# Altium footprint library DIP.PcbLib: 12 footprints
Each footprint in its own frame and in the unit in brackets; x right, y up, seen from the top. Pads: shape width x height; smd on the part's side, far side on the other; paste and mask are expansions set on the pad; w line width, h text height; cw(c..) or ccw(c..) is an arc to the next point about the centre after c.
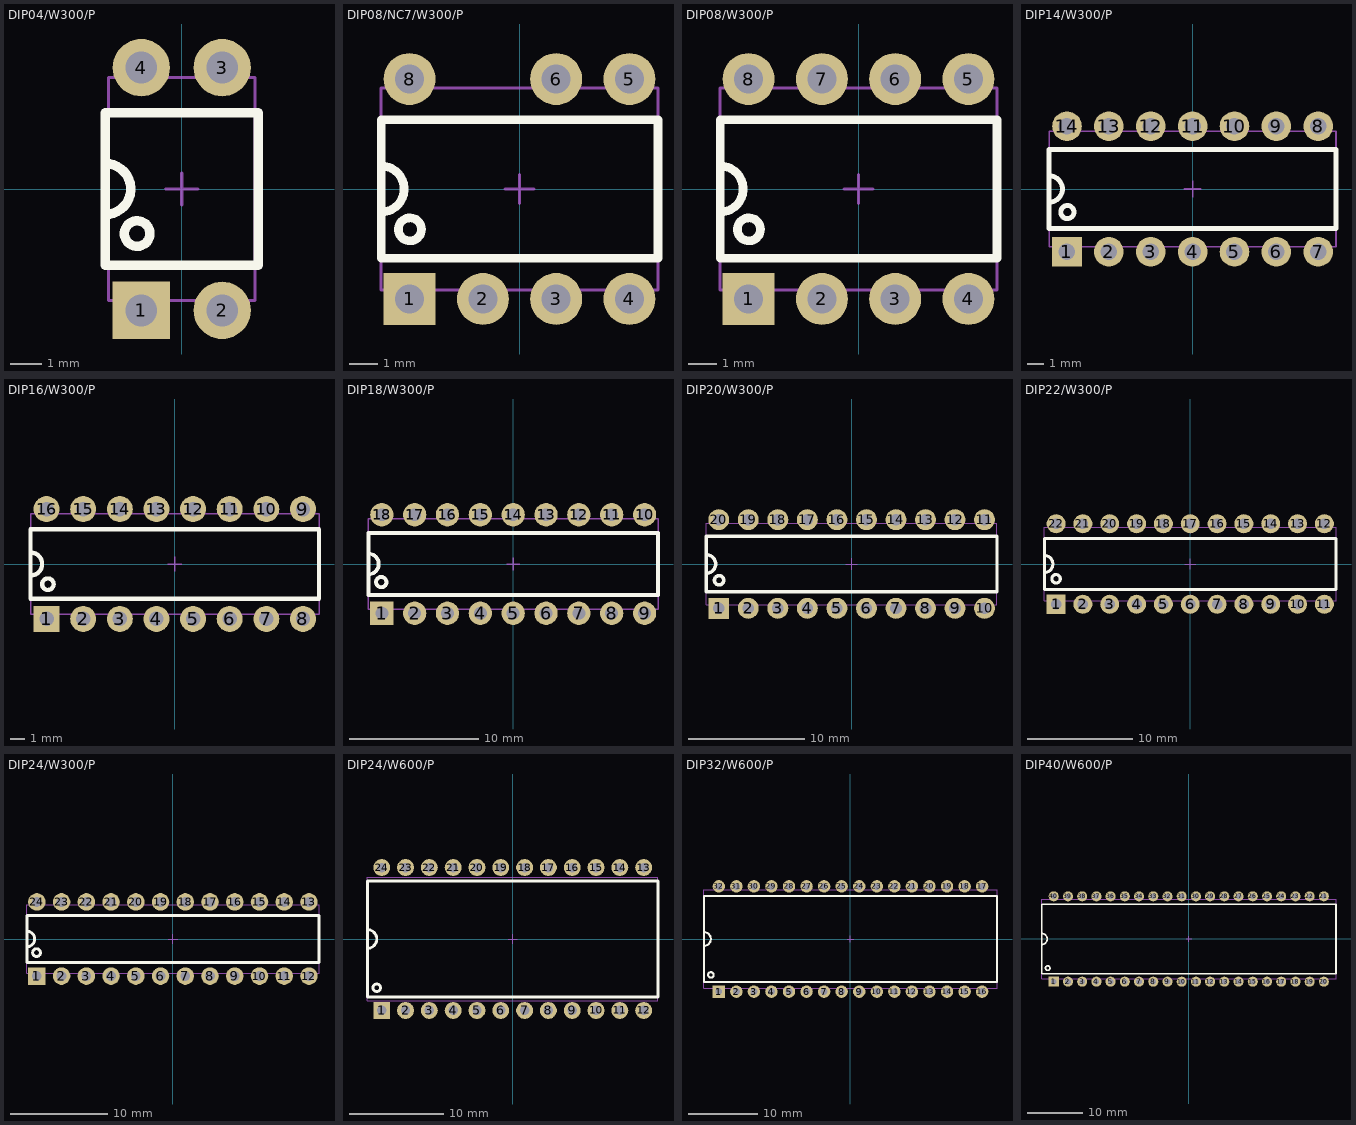
[diagram p0: the footprints below, top view; thin cyan lines are the x and y axes]

## DIP04/W300/P [mm] "Dual Inline Package; 4Pin; JEDEC MO-095; Body Width 300mil/7.62mm; Pitch 100mil/2.54mm;"
height 4.3
pads (4):
  rect 1.8x1.8 hole 1: 1(-1.27,-3.81)
  round 1.8 hole 1: 2(1.27,-3.81) 3(1.27,3.81) 4(-1.27,3.81)
Top Overlay:
  circle w0.3: c-1.4,-1.4 r0.4
  lines w0.3: -2.4,-0.8 ccw(c-2.4,0) -2.4,0.8 ; -2.4,-2.4 2.4,-2.4 2.4,2.4 -2.4,2.4 -2.4,-2.4
Package:
  lines w0.1: -2.3,-3.5 -2.3,3.5 2.3,3.5 2.3,-3.5 -2.3,-3.5
Courtyard:
  lines w0.1: -0.5,0 0.5,0 ; 0,-0.5 0,0.5
3D body: height 5, standoff 0.5, extent -2.3,-3.5 2.3,3.5

## DIP08/NC7/W300/P [mm] "Dual Inline Package; 8Pin; NC7; JEDEC MO-095AA; Body Width 300mil/7.62mm; Pitch 100mil/2.54mm;"
height 4.3
pads (7):
  rect 1.8x1.8 hole 1: 1(-3.81,-3.81)
  round 1.8 hole 1: 2(-1.27,-3.81) 3(1.27,-3.81) 4(3.81,-3.81) 5(3.81,3.81) 6(1.27,3.81) 8(-3.81,3.81)
Top Overlay:
  circle w0.3: c-3.8,-1.4 r0.4
  lines w0.3: -4.8,-0.8 ccw(c-4.8,0) -4.8,0.8 ; -4.8,-2.4 -4.8,2.4 4.8,2.4 4.8,-2.4 -4.8,-2.4
Package:
  lines w0.1: -4.8,-3.5 4.8,-3.5 4.8,3.5 -4.8,3.5 -4.8,-3.5
Courtyard:
  lines w0.1: -0.5,0 0.5,0 ; 0,-0.5 0,0.5
3D body: height 5, standoff 0.5, extent -4.8,-3.5 4.8,3.5

## DIP08/W300/P [mm] "Dual Inline Package; 8Pin; JEDEC MO-095AA; Body Width 300mil/7.62mm; Pitch 100mil/2.54mm;"
height 4.3
pads (8):
  rect 1.8x1.8 hole 1: 1(-3.81,-3.81)
  round 1.8 hole 1: 2(-1.27,-3.81) 3(1.27,-3.81) 4(3.81,-3.81) 5(3.81,3.81) 6(1.27,3.81) 7(-1.27,3.81) 8(-3.81,3.81)
Top Overlay:
  circle w0.3: c-3.8,-1.4 r0.4
  lines w0.3: -4.8,-0.8 ccw(c-4.8,0) -4.8,0.8 ; -4.8,-2.4 4.8,-2.4 4.8,2.4 -4.8,2.4 -4.8,-2.4
Package:
  lines w0.1: -4.8,-3.5 -4.8,3.5 4.8,3.5 4.8,-3.5 -4.8,-3.5
Courtyard:
  lines w0.1: -0.5,0 0.5,0 ; 0,-0.5 0,0.5
3D body: height 5, standoff 0.5, extent -4.8,-3.5 4.8,3.5

## DIP14/W300/P [mm] "Dual Inline Package; 14Pin; JEDEC MO-095AB; Body Width 300mil/7.62mm; Pitch 100mil/2.54mm;"
height 4.3
pads (14):
  rect 1.8x1.8 hole 1: 1(-7.62,-3.81)
  round 1.8 hole 1: 2(-5.08,-3.81) 3(-2.54,-3.81) 4(0,-3.81) 5(2.54,-3.81) 6(5.08,-3.81) 7(7.62,-3.81) 8(7.62,3.81) 9(5.08,3.81) 10(2.54,3.81) 11(0,3.81) 12(-2.54,3.81) 13(-5.08,3.81) 14(-7.62,3.81)
Top Overlay:
  circle w0.3: c-7.6,-1.4 r0.4
  lines w0.3: -8.7,-0.8 ccw(c-8.7,0) -8.7,0.8 ; -8.7,-2.4 -8.7,2.4 8.7,2.4 8.7,-2.4 -8.7,-2.4
Package:
  lines w0.1: -8.7,-3.5 -8.7,3.5 8.7,3.5 8.7,-3.5 -8.7,-3.5
Courtyard:
  lines w0.1: -0.5,0 0.5,0 ; 0,-0.5 0,0.5
3D body: height 5, standoff 0.5, extent -8.7,-3.5 8.7,3.5

## DIP16/W300/P [mm] "Dual Inline Package; 16Pin; JEDEC MO-095AC; Body Width 300mil/7.62mm; Pitch 100mil/2.54mm;"
height 4.3
pads (16):
  rect 1.8x1.8 hole 1: 1(-8.89,-3.81)
  round 1.8 hole 1: 2(-6.35,-3.81) 3(-3.81,-3.81) 4(-1.27,-3.81) 5(1.27,-3.81) 6(3.81,-3.81) 7(6.35,-3.81) 8(8.89,-3.81) 9(8.89,3.81) 10(6.35,3.81) 11(3.81,3.81) 12(1.27,3.81) 13(-1.27,3.81) 14(-3.81,3.81) 15(-6.35,3.81) 16(-8.89,3.81)
Top Overlay:
  circle w0.3: c-8.8,-1.4 r0.4
  lines w0.3: -10,-0.8 ccw(c-10,0) -10,0.8 ; -10,-2.4 10,-2.4 10,2.4 -10,2.4 -10,-2.4
Package:
  lines w0.1: -10,-3.5 -10,3.5 10,3.5 10,-3.5 -10,-3.5
Courtyard:
  lines w0.1: -0.5,0 0.5,0 ; 0,-0.5 0,0.5
3D body: height 5, standoff 0.5, extent -10,-3.5 10,3.5

## DIP18/W300/P [mm] "Dual Inline Package; 18Pin; JEDEC MO-095AD; Body Width 300mil/7.62mm; Pitch 100mil/2.54mm;"
height 4.3
pads (18):
  rect 1.8x1.8 hole 1: 1(-10.16,-3.81)
  round 1.8 hole 1: 2(-7.62,-3.81) 3(-5.08,-3.81) 4(-2.54,-3.81) 5(0,-3.81) 6(2.54,-3.81) 7(5.08,-3.81) 8(7.62,-3.81) 9(10.16,-3.81) 10(10.16,3.81) 11(7.62,3.81) 12(5.08,3.81) 13(2.54,3.81) 14(0,3.81) 15(-2.54,3.81) 16(-5.08,3.81) 17(-7.62,3.81) 18(-10.16,3.81)
Top Overlay:
  circle w0.3: c-10.2,-1.4 r0.4
  lines w0.3: -11.2,-0.8 ccw(c-11.2,0) -11.2,0.8 ; -11.2,-2.41 11.2,-2.41 11.2,2.39 -11.2,2.39 -11.2,-2.41
Package:
  lines w0.1: -11.2,-3.5 11.2,-3.5 11.2,3.5 -11.2,3.5 -11.2,-3.5
Courtyard:
  lines w0.1: -0.5,0 0.5,0 ; 0,-0.5 0,0.5
3D body: height 5, standoff 0.5, extent -11.2,-3.5 11.2,3.5

## DIP20/W300/P [mm] "Dual Inline Package; 20Pin; JEDEC MO-095AE; Body Width 300mil/7.62mm; Pitch 100mil/2.54mm;"
height 4.3
pads (20):
  rect 1.8x1.8 hole 1: 1(-11.43,-3.81)
  round 1.8 hole 1: 2(-8.89,-3.81) 3(-6.35,-3.81) 4(-3.81,-3.81) 5(-1.27,-3.81) 6(1.27,-3.81) 7(3.81,-3.81) 8(6.35,-3.81) 9(8.89,-3.81) 10(11.43,-3.81) 11(11.43,3.81) 12(8.89,3.81) 13(6.35,3.81) 14(3.81,3.81) 15(1.27,3.81) 16(-1.27,3.81) 17(-3.81,3.81) 18(-6.35,3.81) 19(-8.89,3.81) 20(-11.43,3.81)
Top Overlay:
  circle w0.3: c-11.4,-1.4 r0.4
  lines w0.3: -12.5,-0.8 ccw(c-12.5,0) -12.5,0.8 ; -12.5,-2.4 12.5,-2.4 12.5,2.4 -12.5,2.4 -12.5,-2.4
Package:
  lines w0.1: -12.5,-3.5 -12.5,3.5 12.5,3.5 12.5,-3.5 -12.5,-3.5
Courtyard:
  lines w0.1: -0.5,0 0.5,0 ; 0,-0.5 0,0.5
3D body: height 5, standoff 0.5, extent -12.5,-3.5 12.5,3.5

## DIP22/W300/P [mm] "Dual Inline Package; 22Pin; JEDEC MO-095AF; Body Width 300mil/7.62mm; Pitch 100mil/2.54mm;"
height 4.3
pads (22):
  rect 1.8x1.8 hole 1: 1(-12.7,-3.81)
  round 1.8 hole 1: 2(-10.16,-3.81) 3(-7.62,-3.81) 4(-5.08,-3.81) 5(-2.54,-3.81) 6(0,-3.81) 7(2.54,-3.81) 8(5.08,-3.81) 9(7.62,-3.81) 10(10.16,-3.81) 11(12.7,-3.81) 12(12.7,3.81) 13(10.16,3.81) 14(7.62,3.81) 15(5.08,3.81) 16(2.54,3.81) 17(0,3.81) 18(-2.54,3.81) 19(-5.08,3.81) 20(-7.62,3.81) 21(-10.16,3.81) 22(-12.7,3.81)
Top Overlay:
  circle w0.3: c-12.7,-1.4 r0.4
  lines w0.3: -13.8,-0.8 ccw(c-13.8,0) -13.8,0.8 ; -13.8,-2.4 -13.8,2.4 13.8,2.4 13.8,-2.4 -13.8,-2.4
Package:
  lines w0.1: -13.8,-3.5 -13.8,3.5 13.8,3.5 13.8,-3.5 -13.8,-3.5
Courtyard:
  lines w0.1: -0.5,0 0.5,0 ; 0,-0.5 0,0.5
3D body: height 5, standoff 0.5, extent -13.8,-3.5 13.8,3.5

## DIP24/W300/P [mm] "Dual Inline Package; 24Pin; JEDEC MO-095AG; Body Width 300mil/7.62mm; Pitch 100mil/2.54mm;"
height 4.3
pads (24):
  rect 1.8x1.8 hole 1: 1(-13.97,-3.81)
  round 1.8 hole 1: 2(-11.43,-3.81) 3(-8.89,-3.81) 4(-6.35,-3.81) 5(-3.81,-3.81) 6(-1.27,-3.81) 7(1.27,-3.81) 8(3.81,-3.81) 9(6.35,-3.81) 10(8.89,-3.81) 11(11.43,-3.81) 12(13.97,-3.81) 13(13.97,3.81) 14(11.43,3.81) 15(8.89,3.81) 16(6.35,3.81) 17(3.81,3.81) 18(1.27,3.81) 19(-1.27,3.81) 20(-3.81,3.81) 21(-6.35,3.81) 22(-8.89,3.81) 23(-11.43,3.81) 24(-13.97,3.81)
Top Overlay:
  circle w0.3: c-14,-1.4 r0.4
  lines w0.3: -15,-0.8 ccw(c-15,0) -15,0.8 ; -15,-2.4 15,-2.4 15,2.4 -15,2.4 -15,-2.4
Package:
  lines w0.1: -15,-3.5 -15,3.5 15,3.5 15,-3.5 -15,-3.5
Courtyard:
  lines w0.1: -0.5,0 0.5,0 ; 0,-0.5 0,0.5
3D body: height 5, standoff 0.5, extent -15,-3.5 15,3.5

## DIP24/W600/P [mm] "Dual Inline Package; 24Pin; JEDEC MO-015AN; Body Width 600mil/15.24mm; Pitch 100mil/2.54mm;"
height 4.3
pads (24):
  rect 1.8x1.8 hole 1: 1(-13.97,-7.62)
  round 1.8 hole 1: 2(-11.43,-7.62) 3(-8.89,-7.62) 4(-6.35,-7.62) 5(-3.81,-7.62) 6(-1.27,-7.62) 7(1.27,-7.62) 8(3.81,-7.62) 9(6.35,-7.62) 10(8.89,-7.62) 11(11.43,-7.62) 12(13.97,-7.62) 13(13.97,7.62) 14(11.43,7.62) 15(8.89,7.62) 16(6.35,7.62) 17(3.81,7.62) 18(1.27,7.62) 19(-1.27,7.62) 20(-3.81,7.62) 21(-6.35,7.62) 22(-8.89,7.62) 23(-11.43,7.62) 24(-13.97,7.62)
Top Overlay:
  circle w0.3: c-14.5,-5.2 r0.4
  lines w0.3: -15.5,-1 ccw(c-15.5,0) -15.5,1 ; -15.5,-6.2 -15.5,6.2 15.5,6.2 15.5,-6.2 -15.5,-6.2
Package:
  lines w0.1: -15.5,-6.6 -15.5,6.6 15.5,6.6 15.5,-6.6 -15.5,-6.6
Courtyard:
  lines w0.1: -0.5,0 0.5,0 ; 0,-0.5 0,0.5
3D body: height 5.7, standoff 0.5, extent -15.5,-6.6 15.5,6.6

## DIP32/W600/P [mm] "Dual Inline Package; 32Pin; JEDEC MO-015AP; Body Width 600mil/15.24mm; Pitch 100mil/2.54mm; JEDEC Code MO-01fAK."
height 4.3
pads (32):
  rect 1.8x1.8 hole 1: 1(-19.05,-7.62)
  round 1.8 hole 1: 2(-16.51,-7.62) 3(-13.97,-7.62) 4(-11.43,-7.62) 5(-8.89,-7.62) 6(-6.35,-7.62) 7(-3.81,-7.62) 8(-1.27,-7.62) 9(1.27,-7.62) 10(3.81,-7.62) 11(6.35,-7.62) 12(8.89,-7.62) 13(11.43,-7.62) 14(13.97,-7.62) 15(16.51,-7.62) 16(19.05,-7.62) 17(19.05,7.62) 18(16.51,7.62) 19(13.97,7.62) 20(11.43,7.62) 21(8.89,7.62) 22(6.35,7.62) 23(3.81,7.62) 24(1.27,7.62) 25(-1.27,7.62) 26(-3.81,7.62) 27(-6.35,7.62) 28(-8.89,7.62) 29(-11.43,7.62) 30(-13.97,7.62) 31(-16.51,7.62) 32(-19.05,7.62)
Top Overlay:
  circle w0.3: c-20.2,-5.2 r0.4
  lines w0.3: -21.2,-1 ccw(c-21.2,0) -21.2,1 ; -21.2,-6.2 -21.2,6.2 21.2,6.2 21.2,-6.2 -21.2,-6.2
Package:
  lines w0.1: -21.2,-7.1 21.2,-7.1 21.2,7.1 -21.2,7.1 -21.2,-7.1
Courtyard:
  lines w0.1: -0.5,0 0.5,0 ; 0,-0.5 0,0.5
3D body: height 5, standoff 0.5, extent -21.2,-7.1 21.2,7.1

## DIP40/W600/P [mm] "Dual Inline Package; 40Pin; JEDEC MO-015BA; Body Width 600mil/15.24mm; Pitch 100mil/2.54mm;"
height 4.3
pads (40):
  rect 1.8x1.8 hole 1: 1(-24.13,-7.62)
  round 1.8 hole 1: 2(-21.59,-7.62) 3(-19.05,-7.62) 4(-16.51,-7.62) 5(-13.97,-7.62) 6(-11.43,-7.62) 7(-8.89,-7.62) 8(-6.35,-7.62) 9(-3.81,-7.62) 10(-1.27,-7.62) 11(1.27,-7.62) 12(3.81,-7.62) 13(6.35,-7.62) 14(8.89,-7.62) 15(11.43,-7.62) 16(13.97,-7.62) 17(16.51,-7.62) 18(19.05,-7.62) 19(21.59,-7.62) 20(24.13,-7.62) 21(24.13,7.62) 22(21.59,7.62) 23(19.05,7.62) 24(16.51,7.62) 25(13.97,7.62) 26(11.43,7.62) 27(8.89,7.62) 28(6.35,7.62) 29(3.81,7.62) 30(1.27,7.62) 31(-1.27,7.62) 32(-3.81,7.62) 33(-6.35,7.62) 34(-8.89,7.62) 35(-11.43,7.62) 36(-13.97,7.62) 37(-16.51,7.62) 38(-19.05,7.62) 39(-21.59,7.62) 40(-24.13,7.62)
Top Overlay:
  circle w0.3: c-25.2,-5.2 r0.4
  lines w0.3: -26.3,-1 ccw(c-26.3,0) -26.3,1 ; -26.3,-6.2 26.3,-6.2 26.3,6.2 -26.3,6.2 -26.3,-6.2
Package:
  lines w0.1: -26.3,-7.1 26.3,-7.1 26.3,7.1 -26.3,7.1 -26.3,-7.1
Courtyard:
  lines w0.1: -0.5,0 0.5,0 ; 0,-0.5 0,0.5
3D body: height 5, standoff 0.5, extent -26.3,-7.1 26.3,7.1